# EAGLE library part APA102 (library PP_LED)
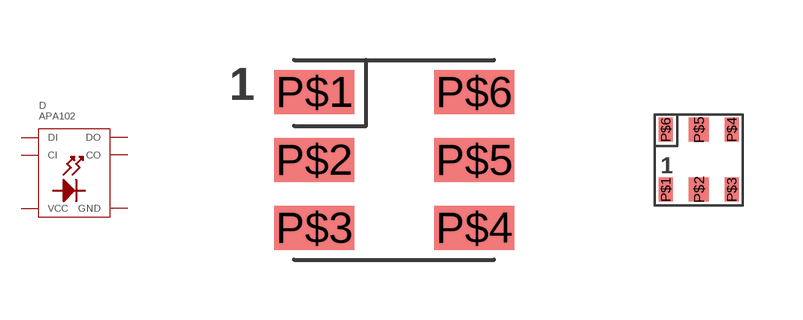
[diagram p5: symbol with the pads of APA102_5050; footprints APA102_5050, APA102_2020]

Designator prefix D

## APA1025050  [APA102_5050]
P$1  DI
P$2  CI
P$3  GND
P$4  VCC
P$5  CO
P$6  DO

## APA1022020  [APA102_2020]
Pads as for APA102_5050

## Footprint APA102_5050 (pad centres in mm)
smd 2 x 1.1: P$1 -2,1.7; P$2 -2,0; P$3 -2,-1.7; P$4 2,-1.7; P$5 2,0; P$6 2,1.7

## Footprint APA102_2020 (pad centres in mm)
smd 0.35 x 0.6: P$1 -0.825,-0.75; P$3 0.825,-0.75; P$4 0.825,0.75; P$6 -0.825,0.75
smd 0.5 x 0.6: P$2 0,-0.75; P$5 0,0.75